# Altium schematic symbol library ИНДУКТИВНОСТЬ.SchLib: 2 symbols
Pins are listed as number, name and electrical type; pins without a type are passive.

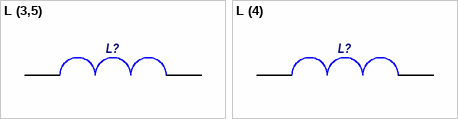
[diagram p0: symbols L (3,5) to L (4)]

## L (3,5)
designator L?  (value not drawn)
Value: {Value}
footprint L (3,5)
pins: 1, 2

## L (4)
designator L?  (value not drawn)
Value: {Value}
footprint L(4)
pins: 1, 2